# Altium schematic symbol library 1879462-3.SchLib: 1 symbol
Pins are listed as number, name and electrical type; pins without a type are passive.

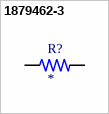
[diagram p0: symbol 1879462-3]

## 1879462-3
designator R?
Res; MP: 1879462-3; Package: None; Price: None; Value: *; Availability: Unavailable
footprint RESC3115X65N
pins: 1, 2